# EAGLE library part HX711 (library HX711)
24-Bit Analog-to-Digital Converter (ADC) for Weigh Scale Source: Datasheet <https://cdn.sparkfun.com/datasheets/Sensors/ForceFlex/hx711_english.pdf>
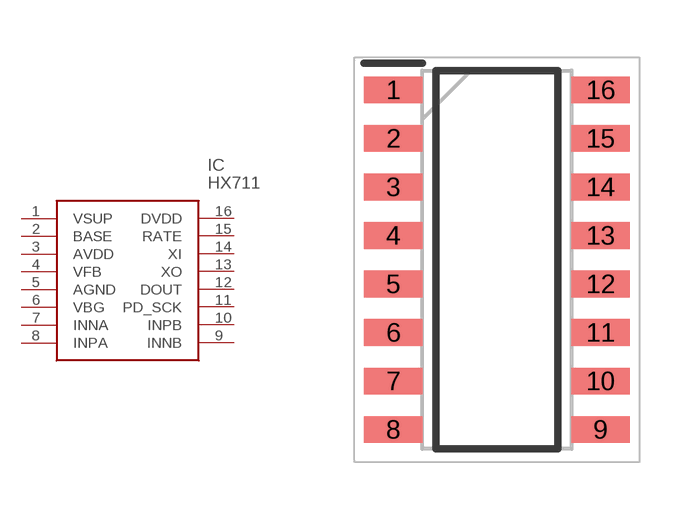
[diagram p0: symbol with the pads of SOIC127P600X160-16N; footprint SOIC127P600X160-16N]

Designator prefix IC

## HX711 (Description: 24-Bit Analog-to-Digital Converter (ADC) for Weigh Scale; Height: 1.6mm; Manufacturer_Name: AVIA Semiconductor; Manufacturer_Part_Number: HX711)  [SOIC127P600X160-16N]
1  VSUP
2  BASE
3  AVDD
4  VFB
5  AGND
6  VBG
7  INNA
8  INPA
9  INNB
10  INPB
11  PD_SCK
12  DOUT
13  XO
14  XI
15  RATE
16  DVDD

## Footprint SOIC127P600X160-16N (pad centres in mm)
SOP-16L Package
smd 1.525 x 0.7: 1 -2.712,4.445; 2 -2.712,3.175; 3 -2.712,1.905; 4 -2.712,0.635; 5 -2.712,-0.635; 6 -2.712,-1.905; 7 -2.712,-3.175; 8 -2.712,-4.445; 9 2.712,-4.445; 10 2.712,-3.175; 11 2.712,-1.905; 12 2.712,-0.635; 13 2.712,0.635; 14 2.712,1.905; 15 2.712,3.175; 16 2.712,4.445